# Altium integrated library TI Amplifiers and Linear Operational Amplifier General Purpose.IntLib: 1448 symbols (part 48 of 51)
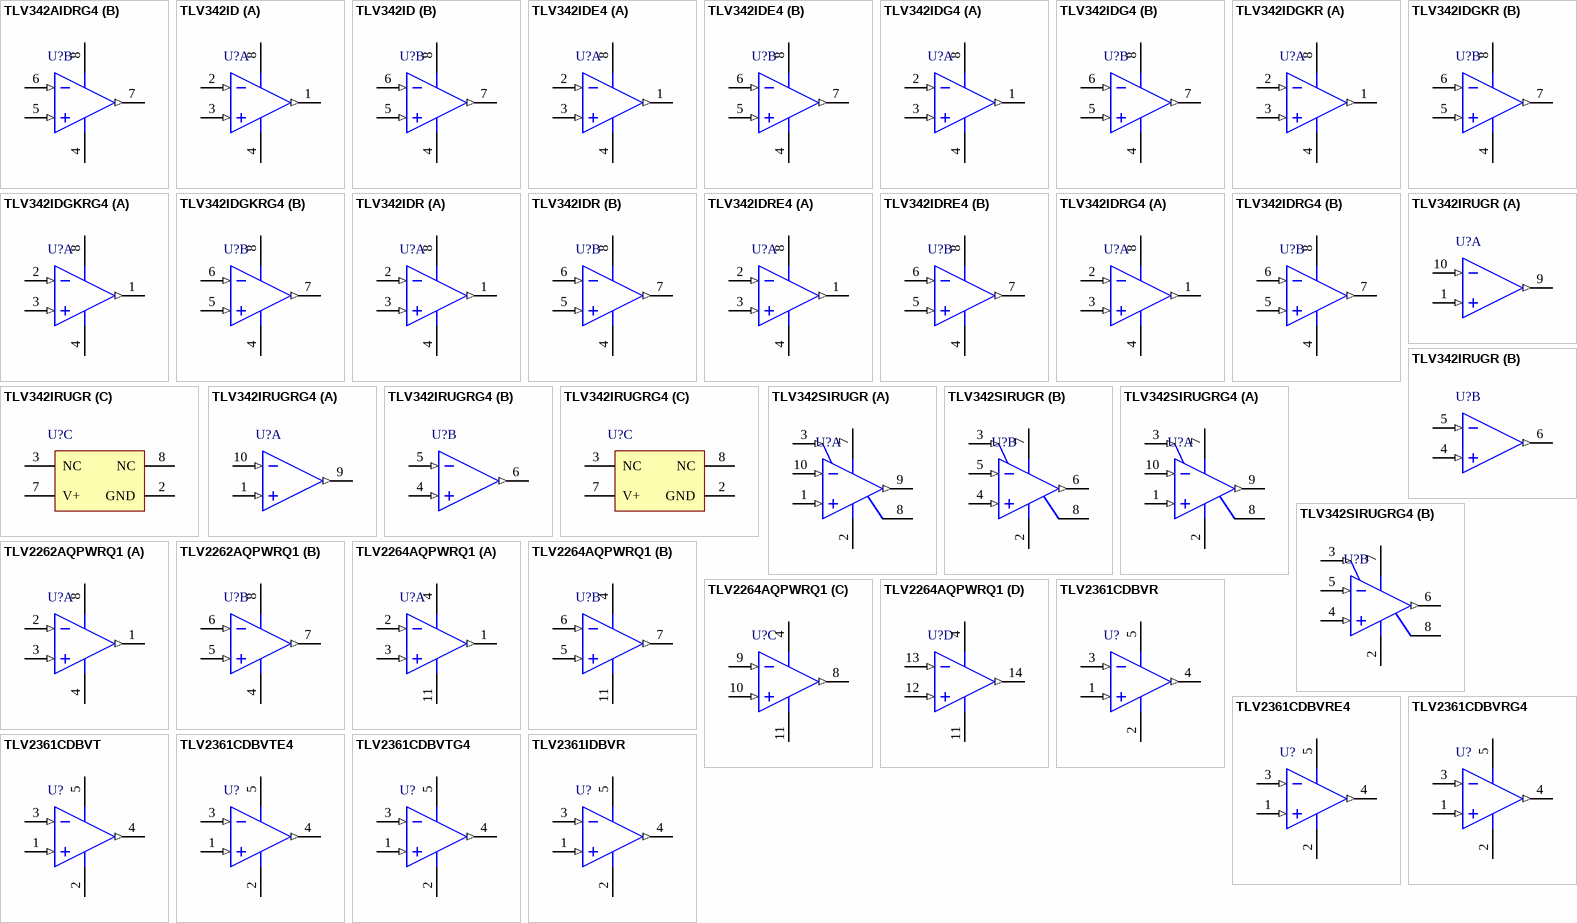
[diagram p138: symbols TLV342AIDRG4 to TLV2361IDBVR]

## TLV2361CDBVRG4
designator U?
Single High-Performance, Low-Voltage Operational Amplifier, 2 to 5 V, 0 to 70 degC, 5-pin SOT23 (DBV5), Green (RoHS & no Sb/Br); Manufacturer: Texas Instruments; PartNumber: TLV2361CDBVRG4; CMRR(Min)(dB): 85; GBW(Typ)(MHz): 6; IIB(Max)(pA): 150000; Iq per channel(Max)(mA): 2.25; Number of Channels: 1; Slew Rate(Typ)(V/us): 3; Sub Family: General Purpose Amplifier, Low Noise Amp (<=10nV/rtHz), Low Supply Voltage Amplifier (<=2.7V); Total Supply Voltage(Max)(+5V is 5, +/-5V is 10): 5; Total Supply Voltage(Min)(+5V is 5, +/-5V is 10): 2; Vn at 1kHz(Typ)(nV/rtHz): 9; DatasheetVersion: SLOS195H; PackageVersion: 4073253-4/K, 03/2006; PackageReference: DBV5; PackageDescription: 5-Pin Plastic Small Outline, Body 1.6 x 2.9 mm, Pitch 0.95 mm; Supplier 1: Digi-Key; Supplier Part Number 1: TLV2361CDBVRG4-ND; Supplier 2: Mouser; Supplier Part Number 2: 595-TLV2361CDBVRG4; Eco-Plan: Green (RoHS & no Sb/Br); Vio (25C)(Max)(mV): 6; Mounting Technology: Surface Mount; Code_JEDEC: MO-178; ComponentLink1Description: Manufacturer URL; ComponentLink1URL: http://www.ti.com/; ComponentLink2Description: Datasheet; ComponentLink2URL: http://www.ti.com/lit/ds/symlink/tlv2361.pdf; ComponentLink3Description: Package Specification; ComponentLink3URL: http://www.ti.com/litv/pdf/mpds018i
footprint TI-DBV5_N (SOT23, 5-Leads, Body 2.9x1.6mm, Pitch 0.95mm, IPC Medium Density)
footprint TI-DBV5_L (SOT23, 5-Leads, Body 2.9x1.6mm, Pitch 0.95mm, IPC High Density)
footprint TI-DBV5_M (SOT23, 5-Leads, Body 2.9x1.6mm, Pitch 0.95mm, IPC Low Density)
pins: 1 IN+ (in), 2 VCC- (power), 3 IN- (in), 4 OUT (out), 5 VCC+ (power)

## TLV2361CDBVT
designator U?
Single High-Performance, Low-Voltage Operational Amplifier, 2 to 5 V, 0 to 70 degC, 5-pin SOT23 (DBV5), Green (RoHS & no Sb/Br); Manufacturer: Texas Instruments; PartNumber: TLV2361CDBVT; CMRR(Min)(dB): 85; GBW(Typ)(MHz): 6; IIB(Max)(pA): 150000; Iq per channel(Max)(mA): 2.25; Number of Channels: 1; Slew Rate(Typ)(V/us): 3; Sub Family: General Purpose Amplifier, Low Noise Amp (<=10nV/rtHz), Low Supply Voltage Amplifier (<=2.7V); Total Supply Voltage(Max)(+5V is 5, +/-5V is 10): 5; Total Supply Voltage(Min)(+5V is 5, +/-5V is 10): 2; Vn at 1kHz(Typ)(nV/rtHz): 9; DatasheetVersion: SLOS195H; PackageVersion: 4073253-4/K, 03/2006; PackageReference: DBV5; PackageDescription: 5-Pin Plastic Small Outline, Body 1.6 x 2.9 mm, Pitch 0.95 mm; Supplier 1: Digi-Key; Supplier Part Number 1: TLV2361CDBVT-ND; Supplier 2: Mouser; Supplier Part Number 2: 595-TLV2361CDBVT; Eco-Plan: Green (RoHS & no Sb/Br); Vio (25C)(Max)(mV): 6; Mounting Technology: Surface Mount; Code_JEDEC: MO-178; ComponentLink1Description: Manufacturer URL; ComponentLink1URL: http://www.ti.com/; ComponentLink2Description: Datasheet; ComponentLink2URL: http://www.ti.com/lit/ds/symlink/tlv2361.pdf; ComponentLink3Description: Package Specification; ComponentLink3URL: http://www.ti.com/litv/pdf/mpds018i
footprint TI-DBV5_N (SOT23, 5-Leads, Body 2.9x1.6mm, Pitch 0.95mm, IPC Medium Density)
footprint TI-DBV5_L (SOT23, 5-Leads, Body 2.9x1.6mm, Pitch 0.95mm, IPC High Density)
footprint TI-DBV5_M (SOT23, 5-Leads, Body 2.9x1.6mm, Pitch 0.95mm, IPC Low Density)
pins: 1 IN+ (in), 2 VCC- (power), 3 IN- (in), 4 OUT (out), 5 VCC+ (power)

## TLV2361CDBVTE4
designator U?
Single High-Performance, Low-Voltage Operational Amplifier, 2 to 5 V, 0 to 70 degC, 5-pin SOT23 (DBV5), Green (RoHS & no Sb/Br); Manufacturer: Texas Instruments; PartNumber: TLV2361CDBVTE4; CMRR(Min)(dB): 85; GBW(Typ)(MHz): 6; IIB(Max)(pA): 150000; Iq per channel(Max)(mA): 2.25; Number of Channels: 1; Slew Rate(Typ)(V/us): 3; Sub Family: General Purpose Amplifier, Low Noise Amp (<=10nV/rtHz), Low Supply Voltage Amplifier (<=2.7V); Total Supply Voltage(Max)(+5V is 5, +/-5V is 10): 5; Total Supply Voltage(Min)(+5V is 5, +/-5V is 10): 2; Vn at 1kHz(Typ)(nV/rtHz): 9; DatasheetVersion: SLOS195H; PackageVersion: 4073253-4/K, 03/2006; PackageReference: DBV5; PackageDescription: 5-Pin Plastic Small Outline, Body 1.6 x 2.9 mm, Pitch 0.95 mm; Supplier 1: Digi-Key; Supplier Part Number 1: TLV2361CDBVTE4-ND; Supplier 2: Mouser; Supplier Part Number 2: 595-TLV2361CDBVTE4; Eco-Plan: Green (RoHS & no Sb/Br); Vio (25C)(Max)(mV): 6; Mounting Technology: Surface Mount; Code_JEDEC: MO-178; ComponentLink1Description: Manufacturer URL; ComponentLink1URL: http://www.ti.com/; ComponentLink2Description: Datasheet; ComponentLink2URL: http://www.ti.com/lit/ds/symlink/tlv2361.pdf; ComponentLink3Description: Package Specification; ComponentLink3URL: http://www.ti.com/litv/pdf/mpds018i
footprint TI-DBV5_N (SOT23, 5-Leads, Body 2.9x1.6mm, Pitch 0.95mm, IPC Medium Density)
footprint TI-DBV5_L (SOT23, 5-Leads, Body 2.9x1.6mm, Pitch 0.95mm, IPC High Density)
footprint TI-DBV5_M (SOT23, 5-Leads, Body 2.9x1.6mm, Pitch 0.95mm, IPC Low Density)
pins: 1 IN+ (in), 2 VCC- (power), 3 IN- (in), 4 OUT (out), 5 VCC+ (power)

## TLV2361CDBVTG4
designator U?
Single High-Performance, Low-Voltage Operational Amplifier, 2 to 5 V, 0 to 70 degC, 5-pin SOT23 (DBV5), Green (RoHS & no Sb/Br); Manufacturer: Texas Instruments; PartNumber: TLV2361CDBVTG4; CMRR(Min)(dB): 85; GBW(Typ)(MHz): 6; IIB(Max)(pA): 150000; Iq per channel(Max)(mA): 2.25; Number of Channels: 1; Slew Rate(Typ)(V/us): 3; Sub Family: General Purpose Amplifier, Low Noise Amp (<=10nV/rtHz), Low Supply Voltage Amplifier (<=2.7V); Total Supply Voltage(Max)(+5V is 5, +/-5V is 10): 5; Total Supply Voltage(Min)(+5V is 5, +/-5V is 10): 2; Vn at 1kHz(Typ)(nV/rtHz): 9; DatasheetVersion: SLOS195H; PackageVersion: 4073253-4/K, 03/2006; PackageReference: DBV5; PackageDescription: 5-Pin Plastic Small Outline, Body 1.6 x 2.9 mm, Pitch 0.95 mm; Supplier 1: Digi-Key; Supplier Part Number 1: TLV2361CDBVTG4-ND; Supplier 2: Mouser; Supplier Part Number 2: 595-TLV2361CDBVTG4; Eco-Plan: Green (RoHS & no Sb/Br); Vio (25C)(Max)(mV): 6; Mounting Technology: Surface Mount; Code_JEDEC: MO-178; ComponentLink1Description: Manufacturer URL; ComponentLink1URL: http://www.ti.com/; ComponentLink2Description: Datasheet; ComponentLink2URL: http://www.ti.com/lit/ds/symlink/tlv2361.pdf; ComponentLink3Description: Package Specification; ComponentLink3URL: http://www.ti.com/litv/pdf/mpds018i
footprint TI-DBV5_N (SOT23, 5-Leads, Body 2.9x1.6mm, Pitch 0.95mm, IPC Medium Density)
footprint TI-DBV5_L (SOT23, 5-Leads, Body 2.9x1.6mm, Pitch 0.95mm, IPC High Density)
footprint TI-DBV5_M (SOT23, 5-Leads, Body 2.9x1.6mm, Pitch 0.95mm, IPC Low Density)
pins: 1 IN+ (in), 2 VCC- (power), 3 IN- (in), 4 OUT (out), 5 VCC+ (power)

## TLV2361IDBVR
designator U?
Single High-Performance, Low-Voltage Operational Amplifier, 2 to 5 V, -40 to 85 degC, 5-pin SOT23 (DBV5), Green (RoHS & no Sb/Br); Manufacturer: Texas Instruments; PartNumber: TLV2361IDBVR; CMRR(Min)(dB): 85; GBW(Typ)(MHz): 6; IIB(Max)(pA): 150000; Iq per channel(Max)(mA): 2.25; Number of Channels: 1; Slew Rate(Typ)(V/us): 3; Sub Family: General Purpose Amplifier, Low Noise Amp (<=10nV/rtHz), Low Supply Voltage Amplifier (<=2.7V); Total Supply Voltage(Max)(+5V is 5, +/-5V is 10): 5; Total Supply Voltage(Min)(+5V is 5, +/-5V is 10): 2; Vn at 1kHz(Typ)(nV/rtHz): 9; DatasheetVersion: SLOS195H; PackageVersion: 4073253-4/K, 03/2006; PackageReference: DBV5; PackageDescription: 5-Pin Plastic Small Outline, Body 1.6 x 2.9 mm, Pitch 0.95 mm; Supplier 1: Digi-Key; Supplier Part Number 1: 296-13745-2-ND; Supplier 2: Digi-Key; Supplier Part Number 2: 296-13745-1-ND; Supplier 3: Digi-Key; Supplier Part Number 3: 296-13745-6-ND; Supplier 4: Mouser; Supplier Part Number 4: 595-TLV2361IDBVR; Eco-Plan: Green (RoHS & no Sb/Br); Vio (25C)(Max)(mV): 6; Mounting Technology: Surface Mount; Code_JEDEC: MO-178; ComponentLink1Description: Manufacturer URL; ComponentLink1URL: http://www.ti.com/; ComponentLink2Description: Datasheet; ComponentLink2URL: http://www.ti.com/lit/ds/symlink/tlv2361.pdf; ComponentLink3Description: Package Specification; ComponentLink3URL: http://www.ti.com/litv/pdf/mpds018i
footprint TI-DBV5_N (SOT23, 5-Leads, Body 2.9x1.6mm, Pitch 0.95mm, IPC Medium Density)
footprint TI-DBV5_L (SOT23, 5-Leads, Body 2.9x1.6mm, Pitch 0.95mm, IPC High Density)
footprint TI-DBV5_M (SOT23, 5-Leads, Body 2.9x1.6mm, Pitch 0.95mm, IPC Low Density)
pins: 1 IN+ (in), 2 VCC- (power), 3 IN- (in), 4 OUT (out), 5 VCC+ (power)

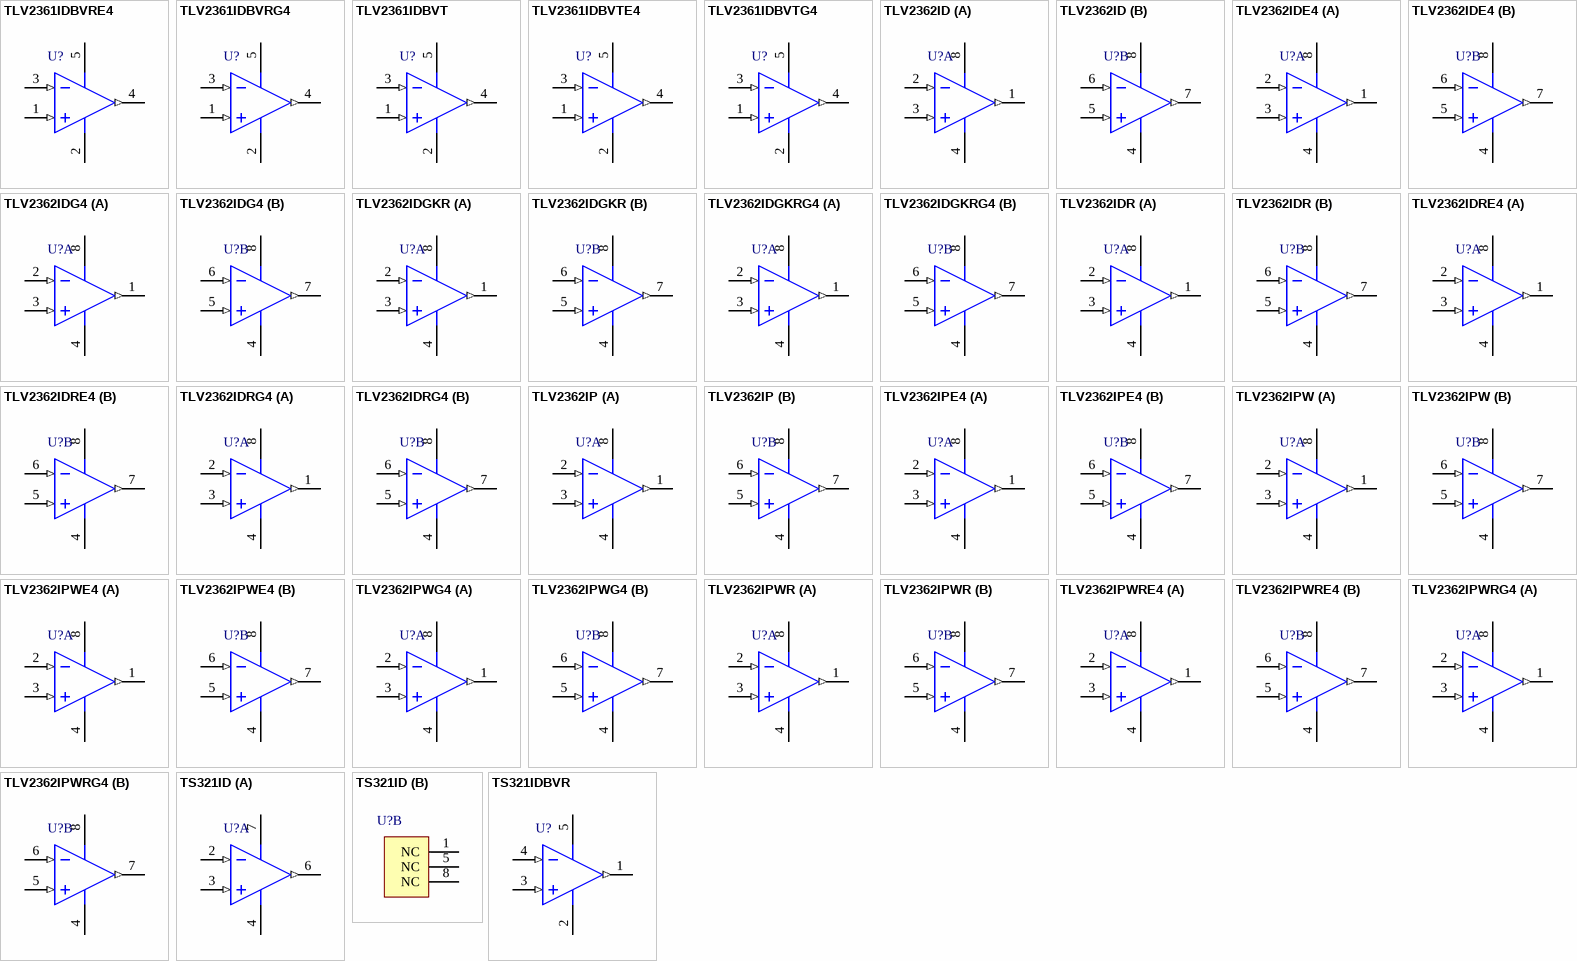
[diagram p84: symbols TLV2361IDBVRE4 to TS321IDBVR]

## TLV2361IDBVRE4
designator U?
Single High-Performance, Low-Voltage Operational Amplifier, 2 to 5 V, -40 to 85 degC, 5-pin SOT23 (DBV5), Green (RoHS & no Sb/Br); Manufacturer: Texas Instruments; PartNumber: TLV2361IDBVRE4; CMRR(Min)(dB): 85; GBW(Typ)(MHz): 6; IIB(Max)(pA): 150000; Iq per channel(Max)(mA): 2.25; Number of Channels: 1; Slew Rate(Typ)(V/us): 3; Sub Family: General Purpose Amplifier, Low Noise Amp (<=10nV/rtHz), Low Supply Voltage Amplifier (<=2.7V); Total Supply Voltage(Max)(+5V is 5, +/-5V is 10): 5; Total Supply Voltage(Min)(+5V is 5, +/-5V is 10): 2; Vn at 1kHz(Typ)(nV/rtHz): 9; DatasheetVersion: SLOS195H; PackageVersion: 4073253-4/K, 03/2006; PackageReference: DBV5; PackageDescription: 5-Pin Plastic Small Outline, Body 1.6 x 2.9 mm, Pitch 0.95 mm; Supplier 1: Digi-Key; Supplier Part Number 1: TLV2361IDBVRE4-ND; Supplier 2: Mouser; Supplier Part Number 2: 595-TLV2361IDBVRE4; Eco-Plan: Green (RoHS & no Sb/Br); Vio (25C)(Max)(mV): 6; Mounting Technology: Surface Mount; Code_JEDEC: MO-178; ComponentLink1Description: Manufacturer URL; ComponentLink1URL: http://www.ti.com/; ComponentLink2Description: Datasheet; ComponentLink2URL: http://www.ti.com/lit/ds/symlink/tlv2361.pdf; ComponentLink3Description: Package Specification; ComponentLink3URL: http://www.ti.com/litv/pdf/mpds018i
footprint TI-DBV5_N (SOT23, 5-Leads, Body 2.9x1.6mm, Pitch 0.95mm, IPC Medium Density)
footprint TI-DBV5_L (SOT23, 5-Leads, Body 2.9x1.6mm, Pitch 0.95mm, IPC High Density)
footprint TI-DBV5_M (SOT23, 5-Leads, Body 2.9x1.6mm, Pitch 0.95mm, IPC Low Density)
pins: 1 IN+ (in), 2 VCC- (power), 3 IN- (in), 4 OUT (out), 5 VCC+ (power)

## TLV2361IDBVRG4
designator U?
Single High-Performance, Low-Voltage Operational Amplifier, 2 to 5 V, -40 to 85 degC, 5-pin SOT23 (DBV5), Green (RoHS & no Sb/Br); Manufacturer: Texas Instruments; PartNumber: TLV2361IDBVRG4; CMRR(Min)(dB): 85; GBW(Typ)(MHz): 6; IIB(Max)(pA): 150000; Iq per channel(Max)(mA): 2.25; Number of Channels: 1; Slew Rate(Typ)(V/us): 3; Sub Family: General Purpose Amplifier, Low Noise Amp (<=10nV/rtHz), Low Supply Voltage Amplifier (<=2.7V); Total Supply Voltage(Max)(+5V is 5, +/-5V is 10): 5; Total Supply Voltage(Min)(+5V is 5, +/-5V is 10): 2; Vn at 1kHz(Typ)(nV/rtHz): 9; DatasheetVersion: SLOS195H; PackageVersion: 4073253-4/K, 03/2006; PackageReference: DBV5; PackageDescription: 5-Pin Plastic Small Outline, Body 1.6 x 2.9 mm, Pitch 0.95 mm; Supplier 1: Digi-Key; Supplier Part Number 1: TLV2361IDBVRG4-ND; Supplier 2: Mouser; Supplier Part Number 2: 595-TLV2361IDBVRG4; Eco-Plan: Green (RoHS & no Sb/Br); Vio (25C)(Max)(mV): 6; Mounting Technology: Surface Mount; Code_JEDEC: MO-178; ComponentLink1Description: Manufacturer URL; ComponentLink1URL: http://www.ti.com/; ComponentLink2Description: Datasheet; ComponentLink2URL: http://www.ti.com/lit/ds/symlink/tlv2361.pdf; ComponentLink3Description: Package Specification; ComponentLink3URL: http://www.ti.com/litv/pdf/mpds018i
footprint TI-DBV5_N (SOT23, 5-Leads, Body 2.9x1.6mm, Pitch 0.95mm, IPC Medium Density)
footprint TI-DBV5_L (SOT23, 5-Leads, Body 2.9x1.6mm, Pitch 0.95mm, IPC High Density)
footprint TI-DBV5_M (SOT23, 5-Leads, Body 2.9x1.6mm, Pitch 0.95mm, IPC Low Density)
pins: 1 IN+ (in), 2 VCC- (power), 3 IN- (in), 4 OUT (out), 5 VCC+ (power)

## TLV2361IDBVT
designator U?
Single High-Performance, Low-Voltage Operational Amplifier, 2 to 5 V, -40 to 85 degC, 5-pin SOT23 (DBV5), Green (RoHS & no Sb/Br); Manufacturer: Texas Instruments; PartNumber: TLV2361IDBVT; CMRR(Min)(dB): 85; GBW(Typ)(MHz): 6; IIB(Max)(pA): 150000; Iq per channel(Max)(mA): 2.25; Number of Channels: 1; Slew Rate(Typ)(V/us): 3; Sub Family: General Purpose Amplifier, Low Noise Amp (<=10nV/rtHz), Low Supply Voltage Amplifier (<=2.7V); Total Supply Voltage(Max)(+5V is 5, +/-5V is 10): 5; Total Supply Voltage(Min)(+5V is 5, +/-5V is 10): 2; Vn at 1kHz(Typ)(nV/rtHz): 9; DatasheetVersion: SLOS195H; PackageVersion: 4073253-4/K, 03/2006; PackageReference: DBV5; PackageDescription: 5-Pin Plastic Small Outline, Body 1.6 x 2.9 mm, Pitch 0.95 mm; Supplier 1: Digi-Key; Supplier Part Number 1: 296-32371-2-ND; Supplier 2: Digi-Key; Supplier Part Number 2: 296-32371-1-ND; Supplier 3: Digi-Key; Supplier Part Number 3: 296-32371-6-ND; Supplier 4: Newark; Supplier Part Number 4: 67K2875; Supplier 5: Mouser; Supplier Part Number 5: 595-TLV2361IDBVT; Eco-Plan: Green (RoHS & no Sb/Br); Vio (25C)(Max)(mV): 6; Mounting Technology: Surface Mount; Code_JEDEC: MO-178; ComponentLink1Description: Manufacturer URL; ComponentLink1URL: http://www.ti.com/; ComponentLink2Description: Datasheet; ComponentLink2URL: http://www.ti.com/lit/ds/symlink/tlv2361.pdf; ComponentLink3Description: Package Specification; ComponentLink3URL: http://www.ti.com/litv/pdf/mpds018i
footprint TI-DBV5_N (SOT23, 5-Leads, Body 2.9x1.6mm, Pitch 0.95mm, IPC Medium Density)
footprint TI-DBV5_L (SOT23, 5-Leads, Body 2.9x1.6mm, Pitch 0.95mm, IPC High Density)
footprint TI-DBV5_M (SOT23, 5-Leads, Body 2.9x1.6mm, Pitch 0.95mm, IPC Low Density)
pins: 1 IN+ (in), 2 VCC- (power), 3 IN- (in), 4 OUT (out), 5 VCC+ (power)

## TLV2361IDBVTE4
designator U?
Single High-Performance, Low-Voltage Operational Amplifier, 2 to 5 V, -40 to 85 degC, 5-pin SOT23 (DBV5), Green (RoHS & no Sb/Br); Manufacturer: Texas Instruments; PartNumber: TLV2361IDBVTE4; CMRR(Min)(dB): 85; GBW(Typ)(MHz): 6; IIB(Max)(pA): 150000; Iq per channel(Max)(mA): 2.25; Number of Channels: 1; Slew Rate(Typ)(V/us): 3; Sub Family: General Purpose Amplifier, Low Noise Amp (<=10nV/rtHz), Low Supply Voltage Amplifier (<=2.7V); Total Supply Voltage(Max)(+5V is 5, +/-5V is 10): 5; Total Supply Voltage(Min)(+5V is 5, +/-5V is 10): 2; Vn at 1kHz(Typ)(nV/rtHz): 9; DatasheetVersion: SLOS195H; PackageVersion: 4073253-4/K, 03/2006; PackageReference: DBV5; PackageDescription: 5-Pin Plastic Small Outline, Body 1.6 x 2.9 mm, Pitch 0.95 mm; Supplier 1: Digi-Key; Supplier Part Number 1: TLV2361IDBVTE4-ND; Supplier 2: Mouser; Supplier Part Number 2: 595-TLV2361IDBVTE4; Eco-Plan: Green (RoHS & no Sb/Br); Vio (25C)(Max)(mV): 6; Mounting Technology: Surface Mount; Code_JEDEC: MO-178; ComponentLink1Description: Manufacturer URL; ComponentLink1URL: http://www.ti.com/; ComponentLink2Description: Datasheet; ComponentLink2URL: http://www.ti.com/lit/ds/symlink/tlv2361.pdf; ComponentLink3Description: Package Specification; ComponentLink3URL: http://www.ti.com/litv/pdf/mpds018i
footprint TI-DBV5_N (SOT23, 5-Leads, Body 2.9x1.6mm, Pitch 0.95mm, IPC Medium Density)
footprint TI-DBV5_L (SOT23, 5-Leads, Body 2.9x1.6mm, Pitch 0.95mm, IPC High Density)
footprint TI-DBV5_M (SOT23, 5-Leads, Body 2.9x1.6mm, Pitch 0.95mm, IPC Low Density)
pins: 1 IN+ (in), 2 VCC- (power), 3 IN- (in), 4 OUT (out), 5 VCC+ (power)

## TLV2361IDBVTG4
designator U?
Single High-Performance, Low-Voltage Operational Amplifier, 2 to 5 V, -40 to 85 degC, 5-pin SOT23 (DBV5), Green (RoHS & no Sb/Br); Manufacturer: Texas Instruments; PartNumber: TLV2361IDBVTG4; CMRR(Min)(dB): 85; GBW(Typ)(MHz): 6; IIB(Max)(pA): 150000; Iq per channel(Max)(mA): 2.25; Number of Channels: 1; Slew Rate(Typ)(V/us): 3; Sub Family: General Purpose Amplifier, Low Noise Amp (<=10nV/rtHz), Low Supply Voltage Amplifier (<=2.7V); Total Supply Voltage(Max)(+5V is 5, +/-5V is 10): 5; Total Supply Voltage(Min)(+5V is 5, +/-5V is 10): 2; Vn at 1kHz(Typ)(nV/rtHz): 9; DatasheetVersion: SLOS195H; PackageVersion: 4073253-4/K, 03/2006; PackageReference: DBV5; PackageDescription: 5-Pin Plastic Small Outline, Body 1.6 x 2.9 mm, Pitch 0.95 mm; Supplier 1: Digi-Key; Supplier Part Number 1: TLV2361IDBVTG4-ND; Supplier 2: Mouser; Supplier Part Number 2: 595-TLV2361IDBVTG4; Eco-Plan: Green (RoHS & no Sb/Br); Vio (25C)(Max)(mV): 6; Mounting Technology: Surface Mount; Code_JEDEC: MO-178; ComponentLink1Description: Manufacturer URL; ComponentLink1URL: http://www.ti.com/; ComponentLink2Description: Datasheet; ComponentLink2URL: http://www.ti.com/lit/ds/symlink/tlv2361.pdf; ComponentLink3Description: Package Specification; ComponentLink3URL: http://www.ti.com/litv/pdf/mpds018i
footprint TI-DBV5_N (SOT23, 5-Leads, Body 2.9x1.6mm, Pitch 0.95mm, IPC Medium Density)
footprint TI-DBV5_L (SOT23, 5-Leads, Body 2.9x1.6mm, Pitch 0.95mm, IPC High Density)
footprint TI-DBV5_M (SOT23, 5-Leads, Body 2.9x1.6mm, Pitch 0.95mm, IPC Low Density)
pins: 1 IN+ (in), 2 VCC- (power), 3 IN- (in), 4 OUT (out), 5 VCC+ (power)

## TLV2362ID
designator U?
Dual High-Performance, Low-Voltage Operational Amplifier, 2 to 5 V, -40 to 85 degC, 8-pin SOIC (D8), Green (RoHS & no Sb/Br); Manufacturer: Texas Instruments; PartNumber: TLV2362ID; CMRR(Min)(dB): 75; GBW(Typ)(MHz): 6; IIB(Max)(pA): 150000; Iq per channel(Max)(mA): 2.25; Number of Channels: 2; Slew Rate(Typ)(V/us): 2.5; Sub Family: General Purpose Amplifier, Low Noise Amp (<=10nV/rtHz), Low Supply Voltage Amplifier (<=2.7V); Total Supply Voltage(Max)(+5V is 5, +/-5V is 10): 5; Vn at 1kHz(Typ)(nV/rtHz): 9; DatasheetVersion: SLOS195H; PackageVersion: 4040047-3/M, 06/2011; PackageReference: D8; PackageDescription: 8-Pin Plastic Small Outline, Body 4.9 x 3.9 mm, Pitch 1.27 mm; Supplier 1: Digi-Key; Supplier Part Number 1: 296-10525-5-ND; Supplier 2: Farnell; Supplier Part Number 2: 1459939; Supplier 3: Mouser; Supplier Part Number 3: 595-TLV2362ID; Eco-Plan: Green (RoHS & no Sb/Br); Total Supply Voltage(Min)(+5V is 5, +/-5V is 10): 2; Vio (25C)(Max)(mV): 6; Mounting Technology: Surface Mount; Code_JEDEC: MS-012; ComponentLink1Description: Manufacturer URL; ComponentLink1URL: http://www.ti.com/; ComponentLink2Description: Datasheet; ComponentLink2URL: http://www.ti.com/lit/ds/symlink/tlv2362.pdf; ComponentLink3Description: Package Specification; ComponentLink3URL: http://www.ti.com/litv/pdf/msoi002j
footprint TI-D8_N (SOIC, 8-Leads, Body 4.9x3.9mm, Pitch 1.27mm, IPC Medium Density)
footprint TI-D8_L (SOIC, 8-Leads, Body 4.9x3.9mm, Pitch 1.27mm, IPC High Density)
footprint TI-D8_M (SOIC, 8-Leads, Body 4.9x3.9mm, Pitch 1.27mm, IPC Low Density)
pins on every part: 4 VCC- (power), 8 VCC+ (power)
part A pins: 1 OUT1 (out), 2 IN1- (in), 3 IN1+ (in)
part B pins: 5 IN2+ (in), 6 IN2- (in), 7 OUT2 (out)

## TLV2362IDE4
designator U?
Dual High-Performance, Low-Voltage Operational Amplifier, 2 to 5 V, -40 to 85 degC, 8-pin SOIC (D8), Green (RoHS & no Sb/Br); Manufacturer: Texas Instruments; PartNumber: TLV2362IDE4; CMRR(Min)(dB): 75; GBW(Typ)(MHz): 6; IIB(Max)(pA): 150000; Iq per channel(Max)(mA): 2.25; Number of Channels: 2; Slew Rate(Typ)(V/us): 2.5; Sub Family: General Purpose Amplifier, Low Noise Amp (<=10nV/rtHz), Low Supply Voltage Amplifier (<=2.7V); Total Supply Voltage(Max)(+5V is 5, +/-5V is 10): 5; Vn at 1kHz(Typ)(nV/rtHz): 9; DatasheetVersion: SLOS195H; PackageVersion: 4040047-3/M, 06/2011; PackageReference: D8; PackageDescription: 8-Pin Plastic Small Outline, Body 4.9 x 3.9 mm, Pitch 1.27 mm; Supplier 1: Digi-Key; Supplier Part Number 1: TLV2362IDE4-ND; Supplier 2: Mouser; Supplier Part Number 2: 595-TLV2362IDE4; Eco-Plan: Green (RoHS & no Sb/Br); Total Supply Voltage(Min)(+5V is 5, +/-5V is 10): 2; Vio (25C)(Max)(mV): 6; Mounting Technology: Surface Mount; Code_JEDEC: MS-012; ComponentLink1Description: Manufacturer URL; ComponentLink1URL: http://www.ti.com/; ComponentLink2Description: Datasheet; ComponentLink2URL: http://www.ti.com/lit/ds/symlink/tlv2362.pdf; ComponentLink3Description: Package Specification; ComponentLink3URL: http://www.ti.com/litv/pdf/msoi002j
footprint TI-D8_N (SOIC, 8-Leads, Body 4.9x3.9mm, Pitch 1.27mm, IPC Medium Density)
footprint TI-D8_L (SOIC, 8-Leads, Body 4.9x3.9mm, Pitch 1.27mm, IPC High Density)
footprint TI-D8_M (SOIC, 8-Leads, Body 4.9x3.9mm, Pitch 1.27mm, IPC Low Density)
pins on every part: 4 VCC- (power), 8 VCC+ (power)
part A pins: 1 OUT1 (out), 2 IN1- (in), 3 IN1+ (in)
part B pins: 5 IN2+ (in), 6 IN2- (in), 7 OUT2 (out)

## TLV2362IDG4
designator U?
Dual High-Performance, Low-Voltage Operational Amplifier, 2 to 5 V, -40 to 85 degC, 8-pin SOIC (D8), Green (RoHS & no Sb/Br); Manufacturer: Texas Instruments; PartNumber: TLV2362IDG4; CMRR(Min)(dB): 75; GBW(Typ)(MHz): 6; IIB(Max)(pA): 150000; Iq per channel(Max)(mA): 2.25; Number of Channels: 2; Slew Rate(Typ)(V/us): 2.5; Sub Family: General Purpose Amplifier, Low Noise Amp (<=10nV/rtHz), Low Supply Voltage Amplifier (<=2.7V); Total Supply Voltage(Max)(+5V is 5, +/-5V is 10): 5; Vn at 1kHz(Typ)(nV/rtHz): 9; DatasheetVersion: SLOS195H; PackageVersion: 4040047-3/M, 06/2011; PackageReference: D8; PackageDescription: 8-Pin Plastic Small Outline, Body 4.9 x 3.9 mm, Pitch 1.27 mm; Supplier 1: Digi-Key; Supplier Part Number 1: TLV2362IDG4-ND; Supplier 2: Mouser; Supplier Part Number 2: 595-TLV2362IDG4; Eco-Plan: Green (RoHS & no Sb/Br); Total Supply Voltage(Min)(+5V is 5, +/-5V is 10): 2; Vio (25C)(Max)(mV): 6; Mounting Technology: Surface Mount; Code_JEDEC: MS-012; ComponentLink1Description: Manufacturer URL; ComponentLink1URL: http://www.ti.com/; ComponentLink2Description: Datasheet; ComponentLink2URL: http://www.ti.com/lit/ds/symlink/tlv2362.pdf; ComponentLink3Description: Package Specification; ComponentLink3URL: http://www.ti.com/litv/pdf/msoi002j
footprint TI-D8_N (SOIC, 8-Leads, Body 4.9x3.9mm, Pitch 1.27mm, IPC Medium Density)
footprint TI-D8_L (SOIC, 8-Leads, Body 4.9x3.9mm, Pitch 1.27mm, IPC High Density)
footprint TI-D8_M (SOIC, 8-Leads, Body 4.9x3.9mm, Pitch 1.27mm, IPC Low Density)
pins on every part: 4 VCC- (power), 8 VCC+ (power)
part A pins: 1 OUT1 (out), 2 IN1- (in), 3 IN1+ (in)
part B pins: 5 IN2+ (in), 6 IN2- (in), 7 OUT2 (out)

## TLV2362IDGKR
designator U?
Dual High-Performance, Low-Voltage Operational Amplifier, 2 to 5 V, -40 to 85 degC, 8-pin SOP (DGK8), Green (RoHS & no Sb/Br); Manufacturer: Texas Instruments; PartNumber: TLV2362IDGKR; CMRR(Min)(dB): 75; GBW(Typ)(MHz): 6; IIB(Max)(pA): 150000; Iq per channel(Max)(mA): 2.25; Number of Channels: 2; Slew Rate(Typ)(V/us): 2.5; Sub Family: General Purpose Amplifier, Low Noise Amp (<=10nV/rtHz), Low Supply Voltage Amplifier (<=2.7V); Total Supply Voltage(Max)(+5V is 5, +/-5V is 10): 5; Vn at 1kHz(Typ)(nV/rtHz): 9; DatasheetVersion: SLOS195H; PackageVersion: 4073329/E, 05/2006; PackageReference: DGK8; PackageDescription: 8-Pin Thin Small Outline, 3 x 3 mm Body, 0.65 mm Pitch; Supplier 1: Digi-Key; Supplier Part Number 1: 296-13995-2-ND; Supplier 2: Digi-Key; Supplier Part Number 2: 296-13995-1-ND; Supplier 3: Digi-Key; Supplier Part Number 3: 296-13995-6-ND; Supplier 4: Mouser; Supplier Part Number 4: 595-TLV2362IDGKR; Eco-Plan: Green (RoHS & no Sb/Br); Total Supply Voltage(Min)(+5V is 5, +/-5V is 10): 2; Vio (25C)(Max)(mV): 6; Mounting Technology: Surface Mount; Code_JEDEC: MO-187; ComponentLink1Description: Manufacturer URL; ComponentLink1URL: http://www.ti.com/; ComponentLink2Description: Datasheet; ComponentLink2URL: http://www.ti.com/lit/ds/symlink/tlv2362.pdf; ComponentLink3Description: Package Specification; ComponentLink3URL: http://www.ti.com/litv/pdf/mpds028d
footprint TI-DGK8_N (SOP, 8-Leads, Body 3x3mm, Pitch 0.65mm, IPC Medium Density)
footprint TI-DGK8_L (SOP, 8-Leads, Body 3x3mm, Pitch 0.65mm, IPC High Density)
footprint TI-DGK8_M (SOP, 8-Leads, Body 3x3mm, Pitch 0.65mm, IPC Low Density)
pins on every part: 4 VCC- (power), 8 VCC+ (power)
part A pins: 1 OUT1 (out), 2 IN1- (in), 3 IN1+ (in)
part B pins: 5 IN2+ (in), 6 IN2- (in), 7 OUT2 (out)

## TLV2362IDGKRG4
designator U?
Dual High-Performance, Low-Voltage Operational Amplifier, 2 to 5 V, -40 to 85 degC, 8-pin SOP (DGK8), Green (RoHS & no Sb/Br); Manufacturer: Texas Instruments; PartNumber: TLV2362IDGKRG4; CMRR(Min)(dB): 75; GBW(Typ)(MHz): 6; IIB(Max)(pA): 150000; Iq per channel(Max)(mA): 2.25; Number of Channels: 2; Slew Rate(Typ)(V/us): 2.5; Sub Family: General Purpose Amplifier, Low Noise Amp (<=10nV/rtHz), Low Supply Voltage Amplifier (<=2.7V); Total Supply Voltage(Max)(+5V is 5, +/-5V is 10): 5; Vn at 1kHz(Typ)(nV/rtHz): 9; DatasheetVersion: SLOS195H; PackageVersion: 4073329/E, 05/2006; PackageReference: DGK8; PackageDescription: 8-Pin Thin Small Outline, 3 x 3 mm Body, 0.65 mm Pitch; Supplier 1: Digi-Key; Supplier Part Number 1: TLV2362IDGKRG4-ND; Supplier 2: Mouser; Supplier Part Number 2: 595-TLV2362IDGKRG4; Eco-Plan: Green (RoHS & no Sb/Br); Total Supply Voltage(Min)(+5V is 5, +/-5V is 10): 2; Vio (25C)(Max)(mV): 6; Mounting Technology: Surface Mount; Code_JEDEC: MO-187; ComponentLink1Description: Manufacturer URL; ComponentLink1URL: http://www.ti.com/; ComponentLink2Description: Datasheet; ComponentLink2URL: http://www.ti.com/lit/ds/symlink/tlv2362.pdf; ComponentLink3Description: Package Specification; ComponentLink3URL: http://www.ti.com/litv/pdf/mpds028d
footprint TI-DGK8_N (SOP, 8-Leads, Body 3x3mm, Pitch 0.65mm, IPC Medium Density)
footprint TI-DGK8_L (SOP, 8-Leads, Body 3x3mm, Pitch 0.65mm, IPC High Density)
footprint TI-DGK8_M (SOP, 8-Leads, Body 3x3mm, Pitch 0.65mm, IPC Low Density)
pins on every part: 4 VCC- (power), 8 VCC+ (power)
part A pins: 1 OUT1 (out), 2 IN1- (in), 3 IN1+ (in)
part B pins: 5 IN2+ (in), 6 IN2- (in), 7 OUT2 (out)

## TLV2362IDR
designator U?
Dual High-Performance, Low-Voltage Operational Amplifier, 2 to 5 V, -40 to 85 degC, 8-pin SOIC (D8), Green (RoHS & no Sb/Br); Manufacturer: Texas Instruments; PartNumber: TLV2362IDR; CMRR(Min)(dB): 75; GBW(Typ)(MHz): 6; IIB(Max)(pA): 150000; Iq per channel(Max)(mA): 2.25; Number of Channels: 2; Slew Rate(Typ)(V/us): 2.5; Sub Family: General Purpose Amplifier, Low Noise Amp (<=10nV/rtHz), Low Supply Voltage Amplifier (<=2.7V); Total Supply Voltage(Max)(+5V is 5, +/-5V is 10): 5; Vn at 1kHz(Typ)(nV/rtHz): 9; DatasheetVersion: SLOS195H; PackageVersion: 4040047-3/M, 06/2011; PackageReference: D8; PackageDescription: 8-Pin Plastic Small Outline, Body 4.9 x 3.9 mm, Pitch 1.27 mm; Supplier 1: Digi-Key; Supplier Part Number 1: 296-15029-2-ND; Supplier 2: Digi-Key; Supplier Part Number 2: 296-15029-1-ND; Supplier 3: Digi-Key; Supplier Part Number 3: 296-15029-6-ND; Supplier 4: Newark; Supplier Part Number 4: 76C7960; Supplier 5: Mouser; Supplier Part Number 5: 595-TLV2362IDR; Eco-Plan: Green (RoHS & no Sb/Br); Total Supply Voltage(Min)(+5V is 5, +/-5V is 10): 2; Vio (25C)(Max)(mV): 6; Mounting Technology: Surface Mount; Code_JEDEC: MS-012; ComponentLink1Description: Manufacturer URL; ComponentLink1URL: http://www.ti.com/; ComponentLink2Description: Datasheet; ComponentLink2URL: http://www.ti.com/lit/ds/symlink/tlv2362.pdf; ComponentLink3Description: Package Specification; ComponentLink3URL: http://www.ti.com/litv/pdf/msoi002j
footprint TI-D8_N (SOIC, 8-Leads, Body 4.9x3.9mm, Pitch 1.27mm, IPC Medium Density)
footprint TI-D8_L (SOIC, 8-Leads, Body 4.9x3.9mm, Pitch 1.27mm, IPC High Density)
footprint TI-D8_M (SOIC, 8-Leads, Body 4.9x3.9mm, Pitch 1.27mm, IPC Low Density)
pins on every part: 4 VCC- (power), 8 VCC+ (power)
part A pins: 1 OUT1 (out), 2 IN1- (in), 3 IN1+ (in)
part B pins: 5 IN2+ (in), 6 IN2- (in), 7 OUT2 (out)

## TLV2362IDRE4
designator U?
Dual High-Performance, Low-Voltage Operational Amplifier, 2 to 5 V, -40 to 85 degC, 8-pin SOIC (D8), Green (RoHS & no Sb/Br); Manufacturer: Texas Instruments; PartNumber: TLV2362IDRE4; CMRR(Min)(dB): 75; GBW(Typ)(MHz): 6; IIB(Max)(pA): 150000; Iq per channel(Max)(mA): 2.25; Number of Channels: 2; Slew Rate(Typ)(V/us): 2.5; Sub Family: General Purpose Amplifier, Low Noise Amp (<=10nV/rtHz), Low Supply Voltage Amplifier (<=2.7V); Total Supply Voltage(Max)(+5V is 5, +/-5V is 10): 5; Vn at 1kHz(Typ)(nV/rtHz): 9; DatasheetVersion: SLOS195H; PackageVersion: 4040047-3/M, 06/2011; PackageReference: D8; PackageDescription: 8-Pin Plastic Small Outline, Body 4.9 x 3.9 mm, Pitch 1.27 mm; Supplier 1: Digi-Key; Supplier Part Number 1: TLV2362IDRE4-ND; Supplier 2: Newark; Supplier Part Number 2: 37K4238; Supplier 3: Mouser; Supplier Part Number 3: 595-TLV2362IDRE4; Eco-Plan: Green (RoHS & no Sb/Br); Total Supply Voltage(Min)(+5V is 5, +/-5V is 10): 2; Vio (25C)(Max)(mV): 6; Mounting Technology: Surface Mount; Code_JEDEC: MS-012; ComponentLink1Description: Manufacturer URL; ComponentLink1URL: http://www.ti.com/; ComponentLink2Description: Datasheet; ComponentLink2URL: http://www.ti.com/lit/ds/symlink/tlv2362.pdf; ComponentLink3Description: Package Specification; ComponentLink3URL: http://www.ti.com/litv/pdf/msoi002j
footprint TI-D8_N (SOIC, 8-Leads, Body 4.9x3.9mm, Pitch 1.27mm, IPC Medium Density)
footprint TI-D8_L (SOIC, 8-Leads, Body 4.9x3.9mm, Pitch 1.27mm, IPC High Density)
footprint TI-D8_M (SOIC, 8-Leads, Body 4.9x3.9mm, Pitch 1.27mm, IPC Low Density)
pins on every part: 4 VCC- (power), 8 VCC+ (power)
part A pins: 1 OUT1 (out), 2 IN1- (in), 3 IN1+ (in)
part B pins: 5 IN2+ (in), 6 IN2- (in), 7 OUT2 (out)

## TLV2362IDRG4
designator U?
Dual High-Performance, Low-Voltage Operational Amplifier, 2 to 5 V, -40 to 85 degC, 8-pin SOIC (D8), Green (RoHS & no Sb/Br); Manufacturer: Texas Instruments; PartNumber: TLV2362IDRG4; CMRR(Min)(dB): 75; GBW(Typ)(MHz): 6; IIB(Max)(pA): 150000; Iq per channel(Max)(mA): 2.25; Number of Channels: 2; Slew Rate(Typ)(V/us): 2.5; Sub Family: General Purpose Amplifier, Low Noise Amp (<=10nV/rtHz), Low Supply Voltage Amplifier (<=2.7V); Total Supply Voltage(Max)(+5V is 5, +/-5V is 10): 5; Vn at 1kHz(Typ)(nV/rtHz): 9; DatasheetVersion: SLOS195H; PackageVersion: 4040047-3/M, 06/2011; PackageReference: D8; PackageDescription: 8-Pin Plastic Small Outline, Body 4.9 x 3.9 mm, Pitch 1.27 mm; Supplier 1: Digi-Key; Supplier Part Number 1: TLV2362IDRG4-ND; Supplier 2: Mouser; Supplier Part Number 2: 595-TLV2362IDRG4; Eco-Plan: Green (RoHS & no Sb/Br); Total Supply Voltage(Min)(+5V is 5, +/-5V is 10): 2; Vio (25C)(Max)(mV): 6; Mounting Technology: Surface Mount; Code_JEDEC: MS-012; ComponentLink1Description: Manufacturer URL; ComponentLink1URL: http://www.ti.com/; ComponentLink2Description: Datasheet; ComponentLink2URL: http://www.ti.com/lit/ds/symlink/tlv2362.pdf; ComponentLink3Description: Package Specification; ComponentLink3URL: http://www.ti.com/litv/pdf/msoi002j
footprint TI-D8_N (SOIC, 8-Leads, Body 4.9x3.9mm, Pitch 1.27mm, IPC Medium Density)
footprint TI-D8_L (SOIC, 8-Leads, Body 4.9x3.9mm, Pitch 1.27mm, IPC High Density)
footprint TI-D8_M (SOIC, 8-Leads, Body 4.9x3.9mm, Pitch 1.27mm, IPC Low Density)
pins on every part: 4 VCC- (power), 8 VCC+ (power)
part A pins: 1 OUT1 (out), 2 IN1- (in), 3 IN1+ (in)
part B pins: 5 IN2+ (in), 6 IN2- (in), 7 OUT2 (out)

## TLV2362IP
designator U?
Dual High-Performance, Low-Voltage Operational Amplifier, 2 to 5 V, -40 to 85 degC, 8-pin DIP (P8), Pb-Free (RoHS); Manufacturer: Texas Instruments; PartNumber: TLV2362IP; CMRR(Min)(dB): 75; GBW(Typ)(MHz): 6; IIB(Max)(pA): 150000; Iq per channel(Max)(mA): 2.25; Number of Channels: 2; Slew Rate(Typ)(V/us): 2.5; Sub Family: General Purpose Amplifier, Low Noise Amp (<=10nV/rtHz), Low Supply Voltage Amplifier (<=2.7V); Total Supply Voltage(Max)(+5V is 5, +/-5V is 10): 5; Vn at 1kHz(Typ)(nV/rtHz): 9; DatasheetVersion: SLOS195H; PackageVersion: 4040082/E, 04/2010; PackageReference: P8; PackageDescription: 8-Pin Plastic In-Line, Body 9.59 x 6.35 mm, Pitch 2.54 mm; Supplier 1: Digi-Key; Supplier Part Number 1: 296-10526-5-ND; Supplier 2: Newark; Supplier Part Number 2: 76C7961; Supplier 3: Mouser; Supplier Part Number 3: 595-TLV2362IP; Eco-Plan: Pb-Free (RoHS); Total Supply Voltage(Min)(+5V is 5, +/-5V is 10): 2; Vio (25C)(Max)(mV): 6; Mounting Technology: Through Hole; Code_JEDEC: MS-001; ComponentLink1Description: Manufacturer URL; ComponentLink1URL: http://www.ti.com/; ComponentLink2Description: Datasheet; ComponentLink2URL: http://www.ti.com/lit/ds/symlink/tlv2362.pdf; ComponentLink3Description: Package Specification; ComponentLink3URL: http://www.ti.com/litv/pdf/mpdi001b
footprint TI-P8 (DIP, 8-Leads, Body 9.59x6.35mm, Pitch 2.54mm)
pins on every part: 4 VCC- (power), 8 VCC+ (power)
part A pins: 1 OUT1 (out), 2 IN1- (in), 3 IN1+ (in)
part B pins: 5 IN2+ (in), 6 IN2- (in), 7 OUT2 (out)

## TLV2362IPE4
designator U?
Dual High-Performance, Low-Voltage Operational Amplifier, 2 to 5 V, -40 to 85 degC, 8-pin DIP (P8), Pb-Free (RoHS); Manufacturer: Texas Instruments; PartNumber: TLV2362IPE4; CMRR(Min)(dB): 75; GBW(Typ)(MHz): 6; IIB(Max)(pA): 150000; Iq per channel(Max)(mA): 2.25; Number of Channels: 2; Slew Rate(Typ)(V/us): 2.5; Sub Family: General Purpose Amplifier, Low Noise Amp (<=10nV/rtHz), Low Supply Voltage Amplifier (<=2.7V); Total Supply Voltage(Max)(+5V is 5, +/-5V is 10): 5; Vn at 1kHz(Typ)(nV/rtHz): 9; DatasheetVersion: SLOS195H; PackageVersion: 4040082/E, 04/2010; PackageReference: P8; PackageDescription: 8-Pin Plastic In-Line, Body 9.59 x 6.35 mm, Pitch 2.54 mm; Supplier 1: Digi-Key; Supplier Part Number 1: TLV2362IPE4-ND; Supplier 2: Newark; Supplier Part Number 2: 37K4239; Supplier 3: Mouser; Supplier Part Number 3: 595-TLV2362IPE4; Eco-Plan: Pb-Free (RoHS); Total Supply Voltage(Min)(+5V is 5, +/-5V is 10): 2; Vio (25C)(Max)(mV): 6; Mounting Technology: Through Hole; Code_JEDEC: MS-001; ComponentLink1Description: Manufacturer URL; ComponentLink1URL: http://www.ti.com/; ComponentLink2Description: Datasheet; ComponentLink2URL: http://www.ti.com/lit/ds/symlink/tlv2362.pdf; ComponentLink3Description: Package Specification; ComponentLink3URL: http://www.ti.com/litv/pdf/mpdi001b
footprint TI-P8 (DIP, 8-Leads, Body 9.59x6.35mm, Pitch 2.54mm)
pins on every part: 4 VCC- (power), 8 VCC+ (power)
part A pins: 1 OUT1 (out), 2 IN1- (in), 3 IN1+ (in)
part B pins: 5 IN2+ (in), 6 IN2- (in), 7 OUT2 (out)

## TLV2362IPW
designator U?
Dual High-Performance, Low-Voltage Operational Amplifier, 2 to 5 V, -40 to 85 degC, 8-pin SOP (PW8), Green (RoHS & no Sb/Br); Manufacturer: Texas Instruments; PartNumber: TLV2362IPW; CMRR(Min)(dB): 75; GBW(Typ)(MHz): 6; IIB(Max)(pA): 150000; Iq per channel(Max)(mA): 2.25; Number of Channels: 2; Slew Rate(Typ)(V/us): 2.5; Sub Family: General Purpose Amplifier, Low Noise Amp (<=10nV/rtHz), Low Supply Voltage Amplifier (<=2.7V); Total Supply Voltage(Max)(+5V is 5, +/-5V is 10): 5; Vn at 1kHz(Typ)(nV/rtHz): 9; DatasheetVersion: SLOS195H; PackageVersion: 4040064-2/G, 02/2011; PackageReference: PW8; PackageDescription: 8-Pin Plastic Small Outline, Body 4.4 x 3 mm, Pitch 0.65 mm; Supplier 1: Digi-Key; Supplier Part Number 1: TLV2362IPW-ND; Supplier 2: Mouser; Supplier Part Number 2: 595-TLV2362IPW; Eco-Plan: Green (RoHS & no Sb/Br); Total Supply Voltage(Min)(+5V is 5, +/-5V is 10): 2; Vio (25C)(Max)(mV): 6; Mounting Technology: Surface Mount; Code_JEDEC: MO-153; ComponentLink1Description: Manufacturer URL; ComponentLink1URL: http://www.ti.com/; ComponentLink2Description: Datasheet; ComponentLink2URL: http://www.ti.com/lit/ds/symlink/tlv2362.pdf; ComponentLink3Description: Package Specification; ComponentLink3URL: http://www.ti.com/litv/pdf/mtss001d
footprint TI-PW8_N (SOP, 8-Leads, Body 4.4x3mm, Pitch 0.65mm, IPC Medium Density)
footprint TI-PW8_L (SOP, 8-Leads, Body 4.4x3mm, Pitch 0.65mm, IPC High Density)
footprint TI-PW8_M (SOP, 8-Leads, Body 4.4x3mm, Pitch 0.65mm, IPC Low Density)
pins on every part: 4 VCC- (power), 8 VCC+ (power)
part A pins: 1 OUT1 (out), 2 IN1- (in), 3 IN1+ (in)
part B pins: 5 IN2+ (in), 6 IN2- (in), 7 OUT2 (out)

## TLV2362IPWE4
designator U?
Dual High-Performance, Low-Voltage Operational Amplifier, 2 to 5 V, -40 to 85 degC, 8-pin SOP (PW8), Green (RoHS & no Sb/Br); Manufacturer: Texas Instruments; PartNumber: TLV2362IPWE4; CMRR(Min)(dB): 75; GBW(Typ)(MHz): 6; IIB(Max)(pA): 150000; Iq per channel(Max)(mA): 2.25; Number of Channels: 2; Slew Rate(Typ)(V/us): 2.5; Sub Family: General Purpose Amplifier, Low Noise Amp (<=10nV/rtHz), Low Supply Voltage Amplifier (<=2.7V); Total Supply Voltage(Max)(+5V is 5, +/-5V is 10): 5; Vn at 1kHz(Typ)(nV/rtHz): 9; DatasheetVersion: SLOS195H; PackageVersion: 4040064-2/G, 02/2011; PackageReference: PW8; PackageDescription: 8-Pin Plastic Small Outline, Body 4.4 x 3 mm, Pitch 0.65 mm; Supplier 1: Digi-Key; Supplier Part Number 1: TLV2362IPWE4-ND; Supplier 2: Mouser; Supplier Part Number 2: 595-TLV2362IPWE4; Eco-Plan: Green (RoHS & no Sb/Br); Total Supply Voltage(Min)(+5V is 5, +/-5V is 10): 2; Vio (25C)(Max)(mV): 6; Mounting Technology: Surface Mount; Code_JEDEC: MO-153; ComponentLink1Description: Manufacturer URL; ComponentLink1URL: http://www.ti.com/; ComponentLink2Description: Datasheet; ComponentLink2URL: http://www.ti.com/lit/ds/symlink/tlv2362.pdf; ComponentLink3Description: Package Specification; ComponentLink3URL: http://www.ti.com/litv/pdf/mtss001d
footprint TI-PW8_N (SOP, 8-Leads, Body 4.4x3mm, Pitch 0.65mm, IPC Medium Density)
footprint TI-PW8_L (SOP, 8-Leads, Body 4.4x3mm, Pitch 0.65mm, IPC High Density)
footprint TI-PW8_M (SOP, 8-Leads, Body 4.4x3mm, Pitch 0.65mm, IPC Low Density)
pins on every part: 4 VCC- (power), 8 VCC+ (power)
part A pins: 1 OUT1 (out), 2 IN1- (in), 3 IN1+ (in)
part B pins: 5 IN2+ (in), 6 IN2- (in), 7 OUT2 (out)

## TLV2362IPWG4
designator U?
Dual High-Performance, Low-Voltage Operational Amplifier, 2 to 5 V, -40 to 85 degC, 8-pin SOP (PW8), Green (RoHS & no Sb/Br); Manufacturer: Texas Instruments; PartNumber: TLV2362IPWG4; CMRR(Min)(dB): 75; GBW(Typ)(MHz): 6; IIB(Max)(pA): 150000; Iq per channel(Max)(mA): 2.25; Number of Channels: 2; Slew Rate(Typ)(V/us): 2.5; Sub Family: General Purpose Amplifier, Low Noise Amp (<=10nV/rtHz), Low Supply Voltage Amplifier (<=2.7V); Total Supply Voltage(Max)(+5V is 5, +/-5V is 10): 5; Vn at 1kHz(Typ)(nV/rtHz): 9; DatasheetVersion: SLOS195H; PackageVersion: 4040064-2/G, 02/2011; PackageReference: PW8; PackageDescription: 8-Pin Plastic Small Outline, Body 4.4 x 3 mm, Pitch 0.65 mm; Supplier 1: Digi-Key; Supplier Part Number 1: TLV2362IPWG4-ND; Supplier 2: Mouser; Supplier Part Number 2: 595-TLV2362IPWG4; Eco-Plan: Green (RoHS & no Sb/Br); Total Supply Voltage(Min)(+5V is 5, +/-5V is 10): 2; Vio (25C)(Max)(mV): 6; Mounting Technology: Surface Mount; Code_JEDEC: MO-153; ComponentLink1Description: Manufacturer URL; ComponentLink1URL: http://www.ti.com/; ComponentLink2Description: Datasheet; ComponentLink2URL: http://www.ti.com/lit/ds/symlink/tlv2362.pdf; ComponentLink3Description: Package Specification; ComponentLink3URL: http://www.ti.com/litv/pdf/mtss001d
footprint TI-PW8_N (SOP, 8-Leads, Body 4.4x3mm, Pitch 0.65mm, IPC Medium Density)
footprint TI-PW8_L (SOP, 8-Leads, Body 4.4x3mm, Pitch 0.65mm, IPC High Density)
footprint TI-PW8_M (SOP, 8-Leads, Body 4.4x3mm, Pitch 0.65mm, IPC Low Density)
pins on every part: 4 VCC- (power), 8 VCC+ (power)
part A pins: 1 OUT1 (out), 2 IN1- (in), 3 IN1+ (in)
part B pins: 5 IN2+ (in), 6 IN2- (in), 7 OUT2 (out)

## TLV2362IPWR
designator U?
Dual High-Performance, Low-Voltage Operational Amplifier, 2 to 5 V, -40 to 85 degC, 8-pin SOP (PW8), Green (RoHS & no Sb/Br); Manufacturer: Texas Instruments; PartNumber: TLV2362IPWR; CMRR(Min)(dB): 75; GBW(Typ)(MHz): 6; IIB(Max)(pA): 150000; Iq per channel(Max)(mA): 2.25; Number of Channels: 2; Slew Rate(Typ)(V/us): 2.5; Sub Family: General Purpose Amplifier, Low Noise Amp (<=10nV/rtHz), Low Supply Voltage Amplifier (<=2.7V); Total Supply Voltage(Max)(+5V is 5, +/-5V is 10): 5; Vn at 1kHz(Typ)(nV/rtHz): 9; DatasheetVersion: SLOS195H; PackageVersion: 4040064-2/G, 02/2011; PackageReference: PW8; PackageDescription: 8-Pin Plastic Small Outline, Body 4.4 x 3 mm, Pitch 0.65 mm; Supplier 1: Digi-Key; Supplier Part Number 1: 296-10527-2-ND; Supplier 2: Digi-Key; Supplier Part Number 2: 296-10527-1-ND; Supplier 3: Digi-Key; Supplier Part Number 3: 296-10527-6-ND; Supplier 4: Mouser; Supplier Part Number 4: 595-TLV2362IPWR; Eco-Plan: Green (RoHS & no Sb/Br); Total Supply Voltage(Min)(+5V is 5, +/-5V is 10): 2; Vio (25C)(Max)(mV): 6; Mounting Technology: Surface Mount; Code_JEDEC: MO-153; ComponentLink1Description: Manufacturer URL; ComponentLink1URL: http://www.ti.com/; ComponentLink2Description: Datasheet; ComponentLink2URL: http://www.ti.com/lit/ds/symlink/tlv2362.pdf; ComponentLink3Description: Package Specification; ComponentLink3URL: http://www.ti.com/litv/pdf/mtss001d
footprint TI-PW8_N (SOP, 8-Leads, Body 4.4x3mm, Pitch 0.65mm, IPC Medium Density)
footprint TI-PW8_L (SOP, 8-Leads, Body 4.4x3mm, Pitch 0.65mm, IPC High Density)
footprint TI-PW8_M (SOP, 8-Leads, Body 4.4x3mm, Pitch 0.65mm, IPC Low Density)
pins on every part: 4 VCC- (power), 8 VCC+ (power)
part A pins: 1 OUT1 (out), 2 IN1- (in), 3 IN1+ (in)
part B pins: 5 IN2+ (in), 6 IN2- (in), 7 OUT2 (out)

## TLV2362IPWRE4
designator U?
Dual High-Performance, Low-Voltage Operational Amplifier, 2 to 5 V, -40 to 85 degC, 8-pin SOP (PW8), Green (RoHS & no Sb/Br); Manufacturer: Texas Instruments; PartNumber: TLV2362IPWRE4; CMRR(Min)(dB): 75; GBW(Typ)(MHz): 6; IIB(Max)(pA): 150000; Iq per channel(Max)(mA): 2.25; Number of Channels: 2; Slew Rate(Typ)(V/us): 2.5; Sub Family: General Purpose Amplifier, Low Noise Amp (<=10nV/rtHz), Low Supply Voltage Amplifier (<=2.7V); Total Supply Voltage(Max)(+5V is 5, +/-5V is 10): 5; Vn at 1kHz(Typ)(nV/rtHz): 9; DatasheetVersion: SLOS195H; PackageVersion: 4040064-2/G, 02/2011; PackageReference: PW8; PackageDescription: 8-Pin Plastic Small Outline, Body 4.4 x 3 mm, Pitch 0.65 mm; Supplier 1: Digi-Key; Supplier Part Number 1: TLV2362IPWRE4-ND; Supplier 2: Mouser; Supplier Part Number 2: 595-TLV2362IPWRE4; Eco-Plan: Green (RoHS & no Sb/Br); Total Supply Voltage(Min)(+5V is 5, +/-5V is 10): 2; Vio (25C)(Max)(mV): 6; Mounting Technology: Surface Mount; Code_JEDEC: MO-153; ComponentLink1Description: Manufacturer URL; ComponentLink1URL: http://www.ti.com/; ComponentLink2Description: Datasheet; ComponentLink2URL: http://www.ti.com/lit/ds/symlink/tlv2362.pdf; ComponentLink3Description: Package Specification; ComponentLink3URL: http://www.ti.com/litv/pdf/mtss001d
footprint TI-PW8_N (SOP, 8-Leads, Body 4.4x3mm, Pitch 0.65mm, IPC Medium Density)
footprint TI-PW8_L (SOP, 8-Leads, Body 4.4x3mm, Pitch 0.65mm, IPC High Density)
footprint TI-PW8_M (SOP, 8-Leads, Body 4.4x3mm, Pitch 0.65mm, IPC Low Density)
pins on every part: 4 VCC- (power), 8 VCC+ (power)
part A pins: 1 OUT1 (out), 2 IN1- (in), 3 IN1+ (in)
part B pins: 5 IN2+ (in), 6 IN2- (in), 7 OUT2 (out)

## TLV2362IPWRG4
designator U?
Dual High-Performance, Low-Voltage Operational Amplifier, 2 to 5 V, -40 to 85 degC, 8-pin SOP (PW8), Green (RoHS & no Sb/Br); Manufacturer: Texas Instruments; PartNumber: TLV2362IPWRG4; CMRR(Min)(dB): 75; GBW(Typ)(MHz): 6; IIB(Max)(pA): 150000; Iq per channel(Max)(mA): 2.25; Number of Channels: 2; Slew Rate(Typ)(V/us): 2.5; Sub Family: General Purpose Amplifier, Low Noise Amp (<=10nV/rtHz), Low Supply Voltage Amplifier (<=2.7V); Total Supply Voltage(Max)(+5V is 5, +/-5V is 10): 5; Vn at 1kHz(Typ)(nV/rtHz): 9; DatasheetVersion: SLOS195H; PackageVersion: 4040064-2/G, 02/2011; PackageReference: PW8; PackageDescription: 8-Pin Plastic Small Outline, Body 4.4 x 3 mm, Pitch 0.65 mm; Supplier 1: Digi-Key; Supplier Part Number 1: TLV2362IPWRG4-ND; Supplier 2: Mouser; Supplier Part Number 2: 595-TLV2362IPWRG4; Eco-Plan: Green (RoHS & no Sb/Br); Total Supply Voltage(Min)(+5V is 5, +/-5V is 10): 2; Vio (25C)(Max)(mV): 6; Mounting Technology: Surface Mount; Code_JEDEC: MO-153; ComponentLink1Description: Manufacturer URL; ComponentLink1URL: http://www.ti.com/; ComponentLink2Description: Datasheet; ComponentLink2URL: http://www.ti.com/lit/ds/symlink/tlv2362.pdf; ComponentLink3Description: Package Specification; ComponentLink3URL: http://www.ti.com/litv/pdf/mtss001d
footprint TI-PW8_N (SOP, 8-Leads, Body 4.4x3mm, Pitch 0.65mm, IPC Medium Density)
footprint TI-PW8_L (SOP, 8-Leads, Body 4.4x3mm, Pitch 0.65mm, IPC High Density)
footprint TI-PW8_M (SOP, 8-Leads, Body 4.4x3mm, Pitch 0.65mm, IPC Low Density)
pins on every part: 4 VCC- (power), 8 VCC+ (power)
part A pins: 1 OUT1 (out), 2 IN1- (in), 3 IN1+ (in)
part B pins: 5 IN2+ (in), 6 IN2- (in), 7 OUT2 (out)

## TS321ID
designator U?
Low-Power Single Operational Amplifier, 3 to 30 V, -40 to 125 degC, 8-pin SOIC (D8), Green (RoHS & no Sb/Br); Manufacturer: Texas Instruments; PartNumber: TS321ID; CMRR(Min)(dB): 65; GBW(Typ)(MHz): 0.8; IIB(Max)(pA): 200000; Iq per channel(Max)(mA): 1; Slew Rate(Typ)(V/us): 0.4; Sub Family: General Purpose Amplifier, High Supply Voltage Amplifier (>=30V); Total Supply Voltage(Max)(+5V is 5, +/-5V is 10): 30; Total Supply Voltage(Min)(+5V is 5, +/-5V is 10): 3; Vio (25C)(Max)(mV): 4; Vn at 1kHz(Typ)(nV/rtHz): 50; DatasheetVersion: SLOS489B; PackageVersion: 4040047-3/M, 06/2011; PackageReference: D8; PackageDescription: 8-Pin Plastic Small Outline, Body 4.9 x 3.9 mm, Pitch 1.27 mm; Supplier 1: Digi-Key; Supplier Part Number 1: TS321IDTI-ND; Supplier 2: Newark; Supplier Part Number 2: 66K4575; Supplier 3: Mouser; Supplier Part Number 3: 595-TS321ID; Eco-Plan: Green (RoHS & no Sb/Br); Number of Channels: 1; Mounting Technology: Surface Mount; Code_JEDEC: MS-012; ComponentLink1Description: Manufacturer URL; ComponentLink1URL: http://www.ti.com/; ComponentLink2Description: Datasheet; ComponentLink2URL: http://www.ti.com/lit/ds/symlink/ts321.pdf; ComponentLink3Description: Package Specification; ComponentLink3URL: http://www.ti.com/litv/pdf/msoi002j
footprint TI-D8_N (SOIC, 8-Leads, Body 4.9x3.9mm, Pitch 1.27mm, IPC Medium Density)
footprint TI-D8_L (SOIC, 8-Leads, Body 4.9x3.9mm, Pitch 1.27mm, IPC High Density)
footprint TI-D8_M (SOIC, 8-Leads, Body 4.9x3.9mm, Pitch 1.27mm, IPC Low Density)
part A pins: 2 IN- (in), 3 IN+ (in), 4 VCC- (power), 6 OUT (out), 7 VCC+ (power)
part B pins: 1 NC, 5 NC, 8 NC

## TS321IDBVR
designator U?
Low-Power Single Operational Amplifier, 3 to 30 V, -40 to 125 degC, 5-pin SOT23 (DBV5), Green (RoHS & no Sb/Br); Manufacturer: Texas Instruments; PartNumber: TS321IDBVR; CMRR(Min)(dB): 65; GBW(Typ)(MHz): 0.8; IIB(Max)(pA): 200000; Iq per channel(Max)(mA): 1; Slew Rate(Typ)(V/us): 0.4; Sub Family: General Purpose Amplifier, High Supply Voltage Amplifier (>=30V); Total Supply Voltage(Max)(+5V is 5, +/-5V is 10): 30; Total Supply Voltage(Min)(+5V is 5, +/-5V is 10): 3; Vio (25C)(Max)(mV): 4; Vn at 1kHz(Typ)(nV/rtHz): 50; DatasheetVersion: SLOS489B; PackageVersion: 4073253-4/K, 03/2006; PackageReference: DBV5; PackageDescription: 5-Pin Plastic Small Outline, Body 1.6 x 2.9 mm, Pitch 0.95 mm; Supplier 1: Digi-Key; Supplier Part Number 1: 296-21173-2-ND; Supplier 2: Digi-Key; Supplier Part Number 2: 296-21173-1-ND; Supplier 3: Digi-Key; Supplier Part Number 3: 296-21173-6-ND; Supplier 4: Newark; Supplier Part Number 4: 87W8986; Supplier 5: Newark; Supplier Part Number 5: 66K4576; Supplier 6: Mouser; Supplier Part Number 6: 595-TS321IDBVR; Eco-Plan: Green (RoHS & no Sb/Br); Number of Channels: 1; Mounting Technology: Surface Mount; Code_JEDEC: MO-178; ComponentLink1Description: Manufacturer URL; ComponentLink1URL: http://www.ti.com/; ComponentLink2Description: Datasheet; ComponentLink2URL: http://www.ti.com/lit/ds/symlink/ts321.pdf; ComponentLink3Description: Package Specification; ComponentLink3URL: http://www.ti.com/litv/pdf/mpds018i
footprint TI-DBV5_N (SOT23, 5-Leads, Body 2.9x1.6mm, Pitch 0.95mm, IPC Medium Density)
footprint TI-DBV5_L (SOT23, 5-Leads, Body 2.9x1.6mm, Pitch 0.95mm, IPC High Density)
footprint TI-DBV5_M (SOT23, 5-Leads, Body 2.9x1.6mm, Pitch 0.95mm, IPC Low Density)
pins: 1 OUT (out), 2 VCC- (power), 3 IN+ (in), 4 IN- (in), 5 VCC+ (power)

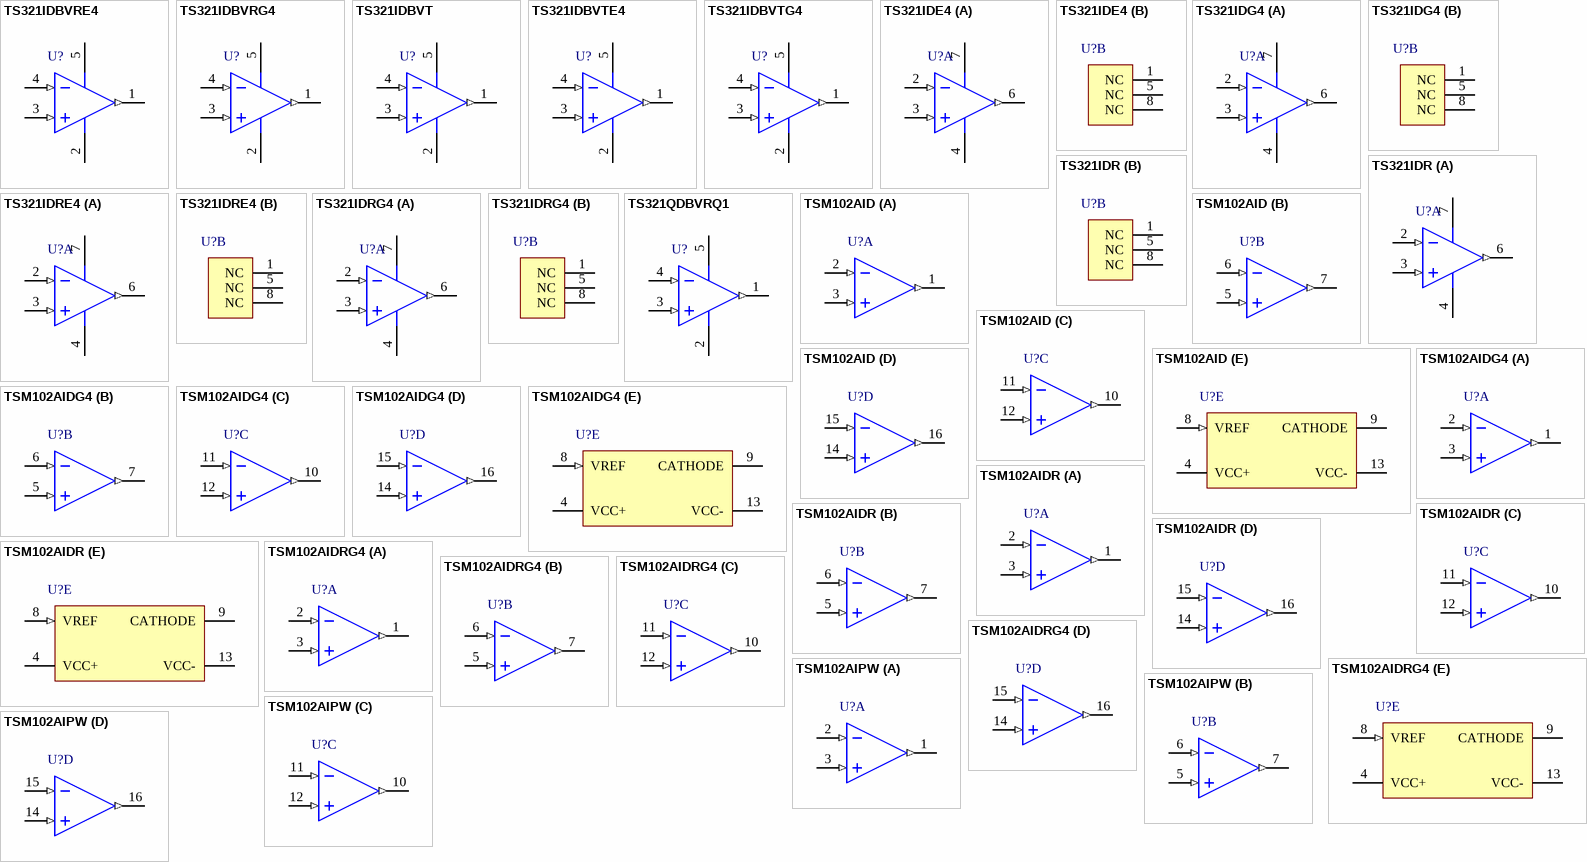
[diagram p85: symbols TS321IDBVRE4 to TSM102AIPW]

## TS321IDBVRE4
designator U?
Low-Power Single Operational Amplifier, 3 to 30 V, -40 to 125 degC, 5-pin SOT23 (DBV5), Green (RoHS & no Sb/Br); Manufacturer: Texas Instruments; PartNumber: TS321IDBVRE4; CMRR(Min)(dB): 65; GBW(Typ)(MHz): 0.8; IIB(Max)(pA): 200000; Iq per channel(Max)(mA): 1; Slew Rate(Typ)(V/us): 0.4; Sub Family: General Purpose Amplifier, High Supply Voltage Amplifier (>=30V); Total Supply Voltage(Max)(+5V is 5, +/-5V is 10): 30; Total Supply Voltage(Min)(+5V is 5, +/-5V is 10): 3; Vio (25C)(Max)(mV): 4; Vn at 1kHz(Typ)(nV/rtHz): 50; DatasheetVersion: SLOS489B; PackageVersion: 4073253-4/K, 03/2006; PackageReference: DBV5; PackageDescription: 5-Pin Plastic Small Outline, Body 1.6 x 2.9 mm, Pitch 0.95 mm; Supplier 1: Digi-Key; Supplier Part Number 1: TS321IDBVRE4-ND; Supplier 2: Mouser; Supplier Part Number 2: 595-TS321IDBVRE4; Eco-Plan: Green (RoHS & no Sb/Br); Number of Channels: 1; Mounting Technology: Surface Mount; Code_JEDEC: MO-178; ComponentLink1Description: Manufacturer URL; ComponentLink1URL: http://www.ti.com/; ComponentLink2Description: Datasheet; ComponentLink2URL: http://www.ti.com/lit/ds/symlink/ts321.pdf; ComponentLink3Description: Package Specification; ComponentLink3URL: http://www.ti.com/litv/pdf/mpds018i
footprint TI-DBV5_N (SOT23, 5-Leads, Body 2.9x1.6mm, Pitch 0.95mm, IPC Medium Density)
footprint TI-DBV5_L (SOT23, 5-Leads, Body 2.9x1.6mm, Pitch 0.95mm, IPC High Density)
footprint TI-DBV5_M (SOT23, 5-Leads, Body 2.9x1.6mm, Pitch 0.95mm, IPC Low Density)
pins: 1 OUT (out), 2 VCC- (power), 3 IN+ (in), 4 IN- (in), 5 VCC+ (power)